# Altium schematic symbol library TPA62XXA1D8-TP.SchLib: 1 symbol
Pins are listed as number, name and electrical type; pins without a type are passive.

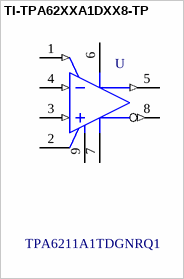
[diagram p0: symbol TI-TPA62XXA1DXX8-TP]

## TI-TPA62XXA1DXX8-TP
designator U, comment TPA6211A1TDGNRQ1
Automotive Catalog 3.1-W Mono, Fully Differential, Class-AB Audio Amplifier, -40 to 105 degC, 8-pin SOP (DGN8), Green (RoHS & no Sb/Br); Manufacturer: Texas Instruments; PartDescription: IC AMP CLASS AB MONO 3.1W 8MSOP; SubFamily: Dynamic Speaker; Supply Max(Max)(Volt): 5.5; Output Power(W): 2.45; PSRR(dB): -85; Supply Min(Min)(Volt): 2.5; ComponentLink1Description: Manufacturer URL; PackageDescription: 8-Pin Plastic Small Outline, Body 3 x 3 mm, Pitch 0.65 mm; ComponentLink1URL: http://www.ti.com/; Eco-Plan: Green (RoHS & no Sb/Br); DatasheetVersion: SBOS555; PartNumber: TPA6211A1TDGNRQ1; Mounting Technology: Surface Mount; PackageReference: DGN0008D; Speaker Channels: Mono; Speaker Amp Type: Class-AB; ComponentLink3Description: Package Specification; Code_JEDEC: MO-187; ComponentLink2Description: Datasheet; ComponentLink3URL: http://www.ti.com/litv/pdf/mpds046e; PackageVersion: 4073271/F, 05/2011; ComponentLink2URL: http://www.ti.com/general/docs/lit/getliterature.tsp?genericPartNumber=TPA6211A1-Q1&fileType=pdf; Supplier 1: Digi-Key; Supplier Part Number 1: 296-29059-1-ND; Package Type: 8 SOP
footprint DGN0008D_L (TSOP, 8-Leads, Body 3.1x3.1mm, Pitch 0.65mm, Thermal Pad 1.89x1.57mm, IPC High Density)
pins: 1 ~{SHUTDOWN} (in) "Shutdown terminal (active low logic)", 2 BYPASS "Mid-supply voltage. Adding a bypass capacitor improves PSRR.", 3 IN+ (in) "Positive differential input", 4 IN- (in) "Negative differential input", 5 VO+ (out) "Positive BTL output", 6 VDD (power) "Supply voltage terminal", 7 GND (power) "High-current ground", 8 VO- (out) "Negative BTL output", 9 EP (power) "Connect to ground. Thermal pad must be soldered down in all applications to properly secure device on the PCB."